# EAGLE library part RDC-20-232-75X+ (library RDC-20-232-75X+)
RF Directional Coupler General Purpose 5MHz ~ 2.35GHz 20.2 +/- 1.3dB 1W 6-SMD Module Source: Datasheet <https://www.minicircuits.com/pdfs/RDC-20-232-75X .pdf>
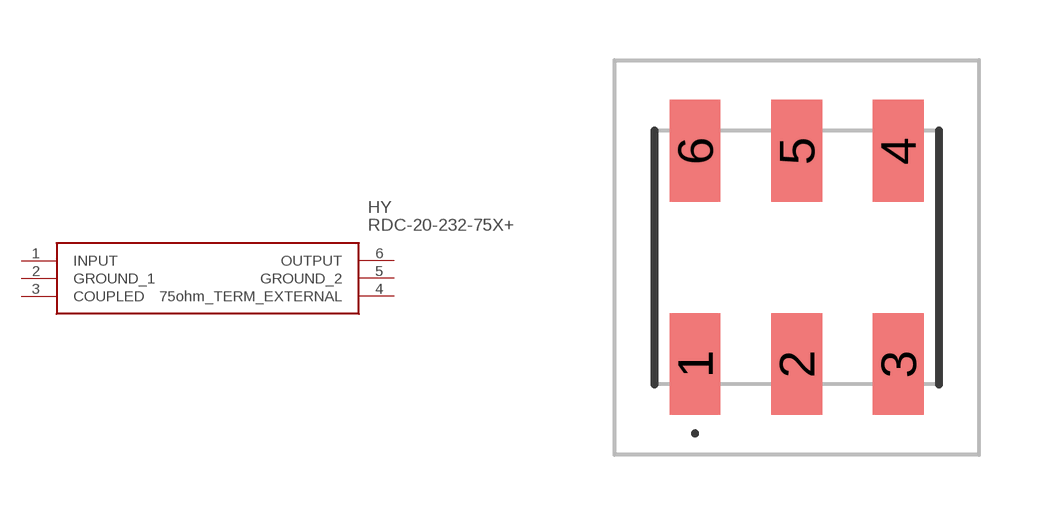
[diagram p0: symbol with the pads of RDC2023275X; footprint RDC2023275X]

Designator prefix HY

## RDC-20-232-75X+ (Description: RF Directional Coupler General Purpose 5MHz ~ 2.35GHz 20.2 +/- 1.3dB 1W 6-SMD Module; Height: 3.56mm; Manufacturer_Name: Mini-Circuits; Manufacturer_Part_Number: RDC-20-232-75X+; Mouser_Part_Number: 139-RDC-20-232-75X+; Mouser_Price-Stock: https://www.mouser.co.uk/ProductDetail/Mini-Circuits/RDC-20-232-75X%2b?qs=ljCeji4nMDlqXNd5I%2FycaA%3D%3D)  [RDC2023275X]
1  INPUT
2  GROUND_1
3  COUPLED
4  75ohm_TERM_EXTERNAL
5  GROUND_2
6  OUTPUT

## Footprint RDC2023275X (pad centres in mm)
TT2315_2025
smd 1.27 x 2.54: 1 -2.54,-2.665; 2 0,-2.665; 3 2.54,-2.665; 4 2.54,2.665; 5 0,2.665; 6 -2.54,2.665